# EAGLE library part FFC10 (library balto)
Flat Flex Cable 10 pins
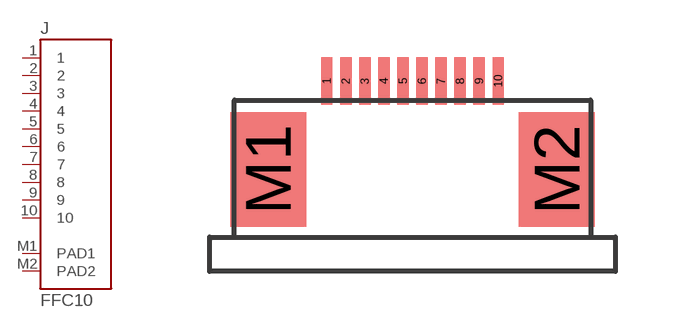
[diagram p69: symbol with the pads of ER-CON10*-1; footprint ER-CON10*-1]

Designator prefix J

## FFC10  [ER-CON10*-1]
1  1
2  2
3  3
4  4
5  5
6  6
7  7
8  8
9  9
10  10
M1  PAD1
M2  PAD2

## Footprint ER-CON10*-1 (pad centres in mm)
EastRising 10pin top contact FFC connector
smd 0.3 x 1.25: 1 -2.25,0; 2 -1.75,0; 3 -1.25,0; 4 -0.75,0; 5 -0.25,0; 6 0.25,0; 7 0.75,0; 8 1.25,0; 9 1.75,0; 10 2.25,0
smd 2 x 3: M1 -3.79,-2.325; M2 3.79,-2.325